# Altium schematic symbol library TemplateSchLib.SchLib: 10 symbols
Pins are listed as number, name and electrical type; pins without a type are passive.

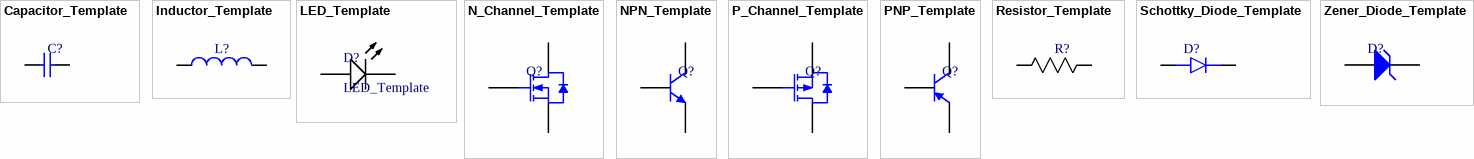
[diagram p0: symbols Capacitor_Template to Zener_Diode_Template]

## Capacitor_Template
designator C?  (value not drawn)
pins: 1, 2

## Inductor_Template
designator L?  (value not drawn)
pins: 1, 2

## LED_Template
designator D?
pins: 1 A, 2 K

## N_Channel_Template
designator Q?  (value not drawn)
pins: 1 G, 2 D, 3 S

## NPN_Template
designator Q?  (value not drawn)
pins: 1 E, 2 B, 3 C

## P_Channel_Template
designator Q?  (value not drawn)
pins: 1 S, 2 G, 3 D

## PNP_Template
designator Q?  (value not drawn)
pins: 1 E, 2 B, 3 C

## Resistor_Template
designator R?  (value not drawn)
pins: 1, 2

## Schottky_Diode_Template
designator D?  (value not drawn)
pins: 1 K, 2 A

## Zener_Diode_Template
designator D?  (value not drawn)
pins: 1 A, 2 K